# Altium footprint library WE-BPF.PcbLib: 2 footprints
Each footprint in its own frame and in the unit in brackets; x right, y up, seen from the top. Pads: shape width x height; smd on the part's side, far side on the other; paste and mask are expansions set on the pad; w line width, h text height; cw(c..) or ccw(c..) is an arc to the next point about the centre after c.
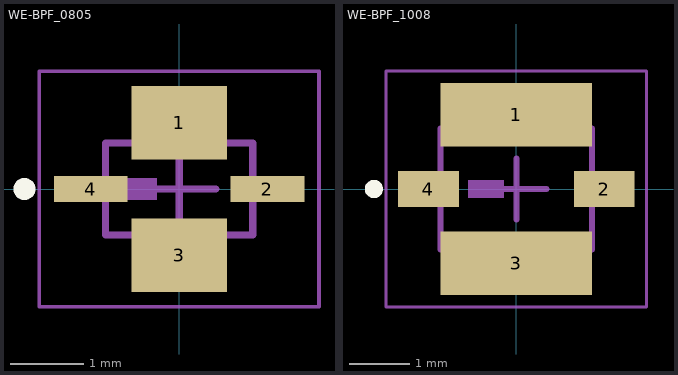
[diagram p0: the footprints below, top view; thin cyan lines are the x and y axes]

## WE-BPF_0805 [mm] "Multilayer Chip Band-Pass Filter, body 2x1.25mm"
height 0.95
pads (4):
  rect 1.3x1 smd: 1(0,0.9) 3(0,-0.9)
  rect 1x0.35 smd: 2(1.2,0) 4(-1.2,0)
Top Overlay:
  circle w0.15: c-2.1,0 r0.075
Top Assembly:
  rectangle: -0.75,-0.15 -0.3,0.15
  lines w0.1: -1,-0.625 -1,0.625 1,0.625 1,-0.625 -1,-0.625
Top Designator:
  text ".Designator" at -3.647,-0.357 h1
Top Courtyard:
  lines w0.05: -1.9,-1.6 1.9,-1.6 1.9,1.6 -1.9,1.6 -1.9,-1.6
Top Component Center:
  lines w0.1: -0.5,0 0.5,0 ; 0,-0.5 0,0.5
3D body "748323055.stp": height 0.95, standoff 0, extent -1,-0.625 1,0.625

## WE-BPF_1008 [mm] "Multilayer Chip Band-Pass Filter, body 2.5x2mm"
height 0.9
pads (4):
  rect 2.5x1.05 smd: 1(0,1.225) 3(0,-1.225)
  rect 1x0.6 smd: 2(1.45,0) 4(-1.45,0)
Top Overlay:
  circle w0.15: c-2.35,0 r0.075
Top Assembly:
  rectangle: -0.8,-0.15 -0.2,0.15
  lines w0.1: -1.25,-1 1.25,-1 1.25,1 -1.25,1 -1.25,-1
Top Designator:
  text ".Designator" at -3.647,-0.357 h1
Top Courtyard:
  lines w0.05: -2.15,-1.95 2.15,-1.95 2.15,1.95 -2.15,1.95 -2.15,-1.95
Top Component Center:
  lines w0.1: -0.5,0 0.5,0 ; 0,-0.5 0,0.5
3D body "748351124.stp": height 0.9, standoff 0, extent -1.25,-1 1.25,1